# Altium schematic symbol library MCP4361-503E-ML.Schlib: 1 symbol
Pins are listed as number, name and electrical type; pins without a type are passive.

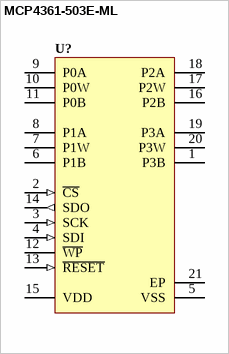
[diagram p0: symbol MCP4361-503E-ML]

## MCP4361-503E-ML
designator U?
8-bit Quad SPI digital POT with Volatile Memory
pins: 1 P3B, 2 ~{CS} (in), 3 SCK (in), 4 SDI (in), 5 VSS (power), 6 P1B, 7 P1W, 8 P1A, 9 P0A, 10 P0W, 11 P0B, 12 ~{WP}, 13 ~{RESET} (in), 14 SDO (out), 15 VDD, 16 P2B, 17 P2W, 18 P2A, 19 P3A, 20 P3W, 21 EP